# EAGLE library part STSPIN230 (library U-ST-STSPIN230-BLDC-controller (no EPAD))
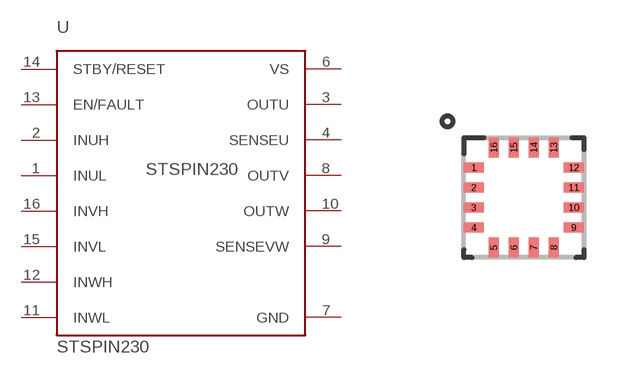
[diagram p0: symbol with the pads of STSPIN230; footprint STSPIN230]

Designator prefix U

## STSPIN230  [STSPIN230]
1  INUL  in
2  INUH  in
3  OUTU  out
4  SENSEU  out
6  VS  pwr
7  GND  pwr
8  OUTV  out
9  SENSEVW  out
10  OUTW  out
11  INWL  in
12  INWH  in
13  EN/FAULT
14  STBY/RESET  in
15  INVL  in
16  INVH  in

## Footprint STSPIN230 (pad centres in mm)
smd 0.5 x 0.25: 1 -1.25,0.75; 2 -1.25,0.25; 3 -1.25,-0.25; 4 -1.25,-0.75; 9 1.25,-0.75; 10 1.25,-0.25; 11 1.25,0.25; 12 1.25,0.75
smd 0.25 x 0.5: 5 -0.75,-1.25; 6 -0.25,-1.25; 7 0.25,-1.25; 8 0.75,-1.25; 13 0.75,1.25; 14 0.25,1.25; 15 -0.25,1.25; 16 -0.75,1.25